# Altium footprint library ESP32-C6-WROOM-1U.PCBLIB: 1 footprints
Each footprint in its own frame and in the unit in brackets; x right, y up, seen from the top. Pads: shape width x height; smd on the part's side, far side on the other; paste and mask are expansions set on the pad; w line width, h text height; cw(c..) or ccw(c..) is an arc to the next point about the centre after c.
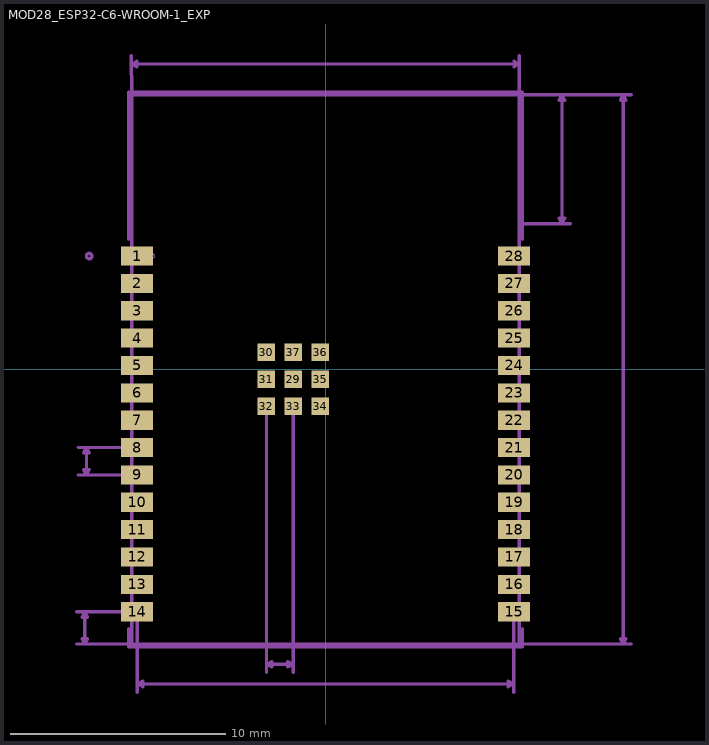
[diagram p0: the footprint, top view; thin cyan lines are the x and y axes]

## MOD28_ESP32-C6-WROOM-1_EXP [mil]
pads (37):
  rect 59x35 smd: 1(-344.49,207.09) 2(-344.49,157.09) 3(-344.49,107.09) 4(-344.49,57.09) 5(-344.49,7.09) 6(-344.49,-42.91) 7(-344.49,-92.91) 8(-344.49,-142.91) 9(-344.49,-192.91) 10(-344.49,-242.91) 11(-344.49,-292.91) 12(-344.49,-342.91) 13(-344.49,-392.91) 14(-344.49,-442.91) 15(344.49,-442.91) 16(344.49,-392.91) 17(344.49,-342.91) 18(344.49,-292.91) 19(344.49,-242.91) 20(344.49,-192.91) 21(344.49,-142.91) 22(344.49,-92.91) 23(344.49,-42.91) 24(344.49,7.09) 25(344.49,57.09) 26(344.49,107.09) 27(344.49,157.09) 28(344.49,207.09)
  rect 32x32 smd: 29(-59.25,-18.11) 30(-108.46,31.1) 31(-108.46,-18.11) 32(-108.46,-67.32) 33(-59.25,-67.32) 34(-10.04,-67.32) 35(-10.04,-18.11) 36(-10.04,31.1) 37(-59.25,31.1)
tDocu:
  lines w0: -318,207 cw(c-315,207) -312,207 cw(c-315,207) -318,207
  lines w6: -354,-502 -354,502 354,502 354,-502 -354,-502
tPlace:
  lines w6: -360,-474 -360,-507 360,-507 360,-474 ; -360,238 -360,507 360,507 360,238 ; -437,207 cw(c-432,207) -427,207 cw(c-432,207) -437,207
Measures:
  lines w6: -455,-502 -440,-502 ; -455,-443 -440,-443 ; -452,-193 -437,-193 ; -452,-143 -437,-143 ; -355,573 -354,502 ; -344,-590 -344,-575 ; -344,-502 -440,-502 ; -344,-193 -437,-193 ; -344,-143 -437,-143 ; -108,-554 -108,-539 ; -108,-67 -108,-539 ; -59,-554 -59,-539 ; -59,-67 -59,-539 ; 344,-590 344,-575 ; 344,-443 344,-575 ; 354,-502 544,-502 ; 354,266 432,266 ; 354,573 354,558 ; 447,266 432,266 ; 559,-502 544,-502 ; 559,502 544,502 ; -440,-502 -435,-492 -445,-492 -440,-502 ; -440,-502 -440,-443 ; -440,-443 -445,-453 -435,-453 -440,-443 ; -440,-443 -344,-443 -344,-575 ; -437,-193 -432,-183 -442,-183 -437,-193 ; -437,-193 -437,-143 ; -437,-143 -442,-153 -432,-153 -437,-143 ; -355,558 -345,553 -345,563 -355,558 ; -355,558 354,558 ; -344,-575 -334,-580 -334,-570 -344,-575 ; -344,-575 344,-575 ; -108,-539 -98,-544 -98,-534 -108,-539 ; -108,-539 -59,-539 ; -59,-539 -69,-534 -69,-544 -59,-539 ; 344,-575 334,-570 334,-580 344,-575 ; 354,558 345,563 345,553 354,558 ; 354,558 354,502 432,502 ; 432,266 437,276 427,276 432,266 ; 432,266 432,502 ; 432,502 544,502 ; 432,502 427,492 437,492 432,502 ; 544,-502 549,-492 539,-492 544,-502 ; 544,-502 544,502 ; 544,502 539,492 549,492 544,502
  text "1.004in/25.502mm" at 564,-12 h38.75
  text "0.689in/17.5mm" at -148,-620 h38.75
  text "0.049in/1.25mm" at -232,-584 h38.75
  text "0.05in/1.27mm" at -730,-180 h38.75
  text "0.059in/1.501mm" at -779,-485 h38.75
  text "0.236in/5.994mm" at 452,372 h38.75
  text "0.709in/18.009mm" at -170,578 h38.75
3D body "ESP32-C6-WROOM-1U.step": height 122.05, standoff -0.39, extent -354.72,-508.94 354.72,246.97